# Altium footprint library RC0402FR-074K7L.PcbLib: 3 footprints
Each footprint in its own frame and in the unit in brackets; x right, y up, seen from the top. Pads: shape width x height; smd on the part's side, far side on the other; paste and mask are expansions set on the pad; w line width, h text height; cw(c..) or ccw(c..) is an arc to the next point about the centre after c.
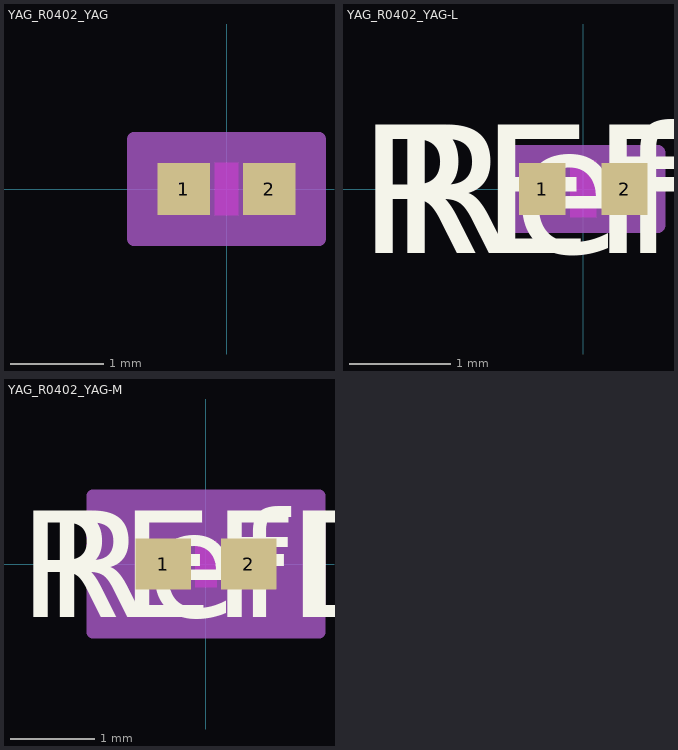
[diagram p0: the footprints below, top view; thin cyan lines are the x and y axes]

## YAG_R0402_YAG [mil]
pads (2):
  rect 22x22 smd paste+0 mask+0: 1(-18,0) 2(18,0)
Top Layer keep-out:
  region: -5,-9 -5,9 5,9 5,-9
Top Overlay:
Keep-Out Layer:
  region: -5,-11 -5,11 5,11 5,-11
Mechanical 13:
  lines w1: -21,-11 -21,11 ; -21,-11 21,-11 ; -21,-11 -7,-11 -7,11 -21,11 ; -21,-11 -21,11 ; -21,11 21,11 ; 21,-11 21,11 ; 21,-11 21,11 ; 21,-11 7,-11 7,11 21,11
Mechanical 15:
  region: 39,-21 -39,-21 -39,21 39,21
  lines w6: -39,-21 39,-21 39,21 -39,21 -39,-21
3D body "YAG_R0402_YAG.step": height 15.98, standoff 0, extent -20.98,-10.98 20.98,10.98

## YAG_R0402_YAG-L [mil]
pads (2):
  rect 18x20 smd paste+0 mask+0: 1(-16,0) 2(16,0)
Top Layer keep-out:
  region: -5,-9 -5,9 5,9 5,-9
Top Overlay:
  text "RefDes" at -75,-25 h50
  text "REFDES" at -87.5,-25 h50
Keep-Out Layer:
  region: -5,-11 -5,11 5,11 5,-11
Mechanical 13:
  lines w1: -21,-11 -21,11 ; -21,-11 -7,-11 -7,11 -21,11 ; -21,-11 21,-11 ; -21,-11 -21,11 ; -21,11 21,11 ; 21,-11 7,-11 7,11 21,11 ; 21,-11 21,11 ; 21,-11 21,11
  text "RefDes2" at -87.5,-25 h50
Mechanical 15:
  region: 29,-14 -29,-14 -29,14 29,14
  lines w6: -29,-14 -29,14 29,14 29,-14 -29,-14
3D body "YAG_R0402_YAG.step": height 15.98, standoff 0, extent -20.98,-10.98 20.98,10.98

## YAG_R0402_YAG-M [mil]
pads (2):
  rect 26x24 smd paste+0 mask+0: 1(-20,0) 2(20,0)
Top Layer keep-out:
  region: -5,-9 -5,9 5,9 5,-9
Top Overlay:
  text "RefDes" at -75,-25 h50
  text "REFDES" at -87.5,-25 h50
Keep-Out Layer:
  region: -5,-11 -5,11 5,11 5,-11
Mechanical 13:
  lines w1: -21,-11 -21,11 ; -21,-11 -7,-11 -7,11 -21,11 ; -21,-11 21,-11 ; -21,-11 -21,11 ; -21,11 21,11 ; 21,-11 7,-11 7,11 21,11 ; 21,-11 21,11 ; 21,-11 21,11
  text "RefDes2" at -87.5,-25 h50
Mechanical 15:
  region: 53,-32 -53,-32 -53,32 53,32
  lines w6: -53,-32 -53,32 53,32 53,-32 -53,-32
3D body "YAG_R0402_YAG.step": height 15.98, standoff 0, extent -20.98,-10.98 20.98,10.98